# Altium footprint library ad.PcbLib: 129 footprints (part 11 of 12)
Each footprint in its own frame and in the unit in brackets; x right, y up, seen from the top. Pads: shape width x height; smd on the part's side, far side on the other; paste and mask are expansions set on the pad; w line width, h text height; cw(c..) or ccw(c..) is an arc to the next point about the centre after c.
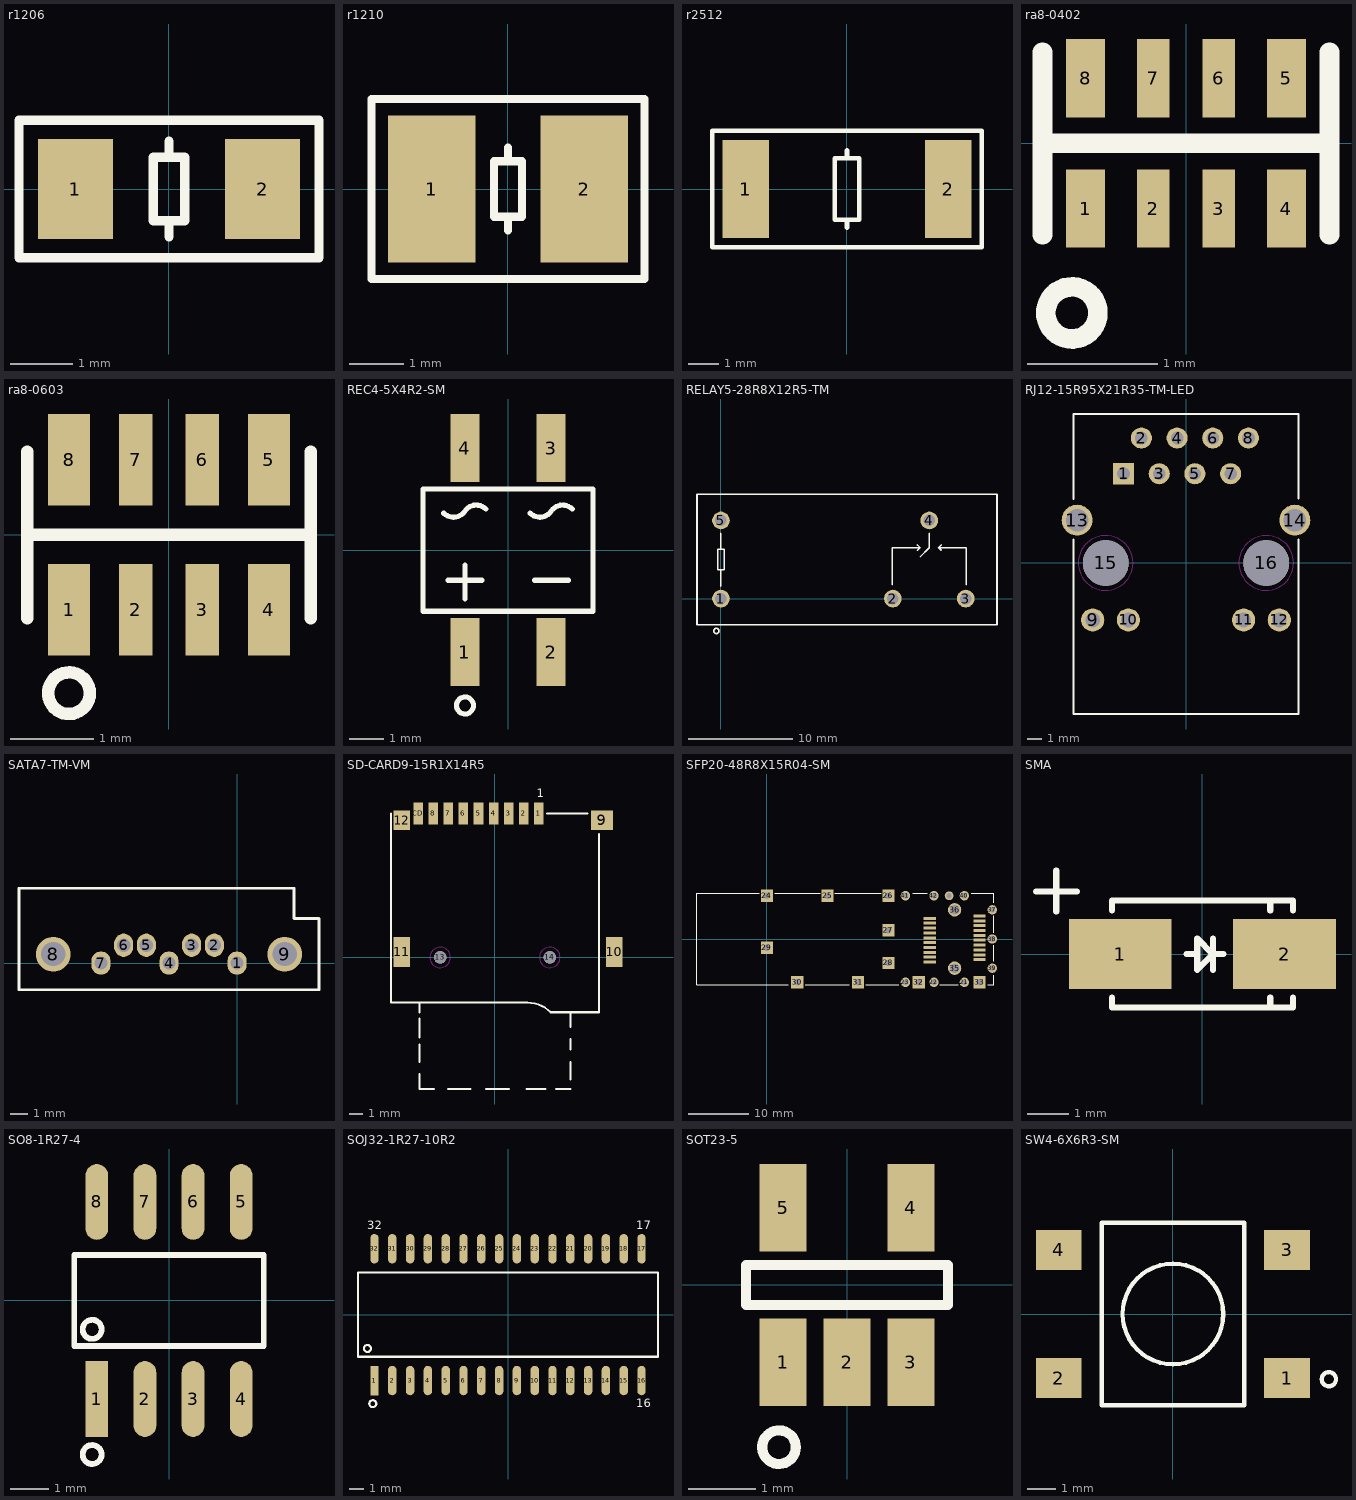
[diagram p10: the footprints below, top view; thin cyan lines are the x and y axes]

## r1206 [mm]
pads (2):
  rect 1.2x1.6 smd: 1(-1.5,0) 2(1.5,0)
Top Overlay:
  lines w0.15: 0,-0.762 0,-0.508 ; 0,0.508 0,0.762 ; -2.4,-1.1 2.4,-1.1 2.4,1.1 -2.4,1.1 -2.4,-1.1 ; -0.254,-0.508 -0.254,0.508 0.254,0.508 0.254,-0.508 -0.254,-0.508

## r1210 [mm]
pads (2):
  rect 1.6x2.7 smd: 1(-1.4,0) 2(1.4,0)
Top Overlay:
  lines w0.15: 0,-0.762 0,-0.508 ; 0,0.508 0,0.762 ; -2.5,-1.65 -2.5,1.65 2.5,1.65 2.5,-1.65 -2.5,-1.65 ; -0.254,-0.508 -0.254,0.508 0.254,0.508 0.254,-0.508 -0.254,-0.508

## r2512 [mm]
pads (2):
  rect 1.52x3.2 smd: 1(-3.3,0) 2(3.3,0)
Top Overlay:
  lines w0.15: 0,-1.27 0,-1 ; 0,1 0,1.27 ; -4.4,-1.9 -4.4,1.9 4.4,1.9 4.4,-1.9 -4.4,-1.9 ; -0.4,-1 0.4,-1 0.4,1 -0.4,1 -0.4,-1

## ra8-0402 [mm]
pads (8):
  rect 0.3x0.6 smd: 1(-0.77,-0.5) 4(0.77,-0.5) 5(0.77,0.5) 8(-0.77,0.5)
  rect 0.25x0.6 smd: 2(-0.25,-0.5) 3(0.25,-0.5) 6(0.25,0.5) 7(-0.25,0.5)
Top Overlay:
  circle w0.15: c-0.875,-1.3 r0.2
  lines w0.15: -1.1,-0.7 -1.1,0.7 ; -1.1,0 1.1,0 ; 1.1,-0.7 1.1,0.7

## ra8-0603 [mm]
pads (8):
  rect 0.5x1.1 smd: 1(-1.2,-0.9) 4(1.2,-0.9) 5(1.2,0.9) 8(-1.2,0.9)
  rect 0.4x1.1 smd: 2(-0.4,-0.9) 3(0.4,-0.9) 6(0.4,0.9) 7(-0.4,0.9)
Top Overlay:
  circle w0.15: c-1.2,-1.9 r0.25
  lines w0.15: -1.7,-1 -1.7,1 ; -1.7,0 1.7,0 ; 1.7,-1 1.7,1

## REC4-5X4R2-SM [mm]
pads (4):
  rect 0.85x2 smd: 1(-1.27,-3) 2(1.27,-3) 3(1.27,3) 4(-1.27,3)
Top Overlay:
  circle w0.15: c-1.266,-4.572 r0.25
  lines w0.15: -1.888,1.082 ccw(c-1.604,1.366) -1.27,1.143 cw(c-0.936,0.92) -0.652,1.204 ; -1.762,-0.889 -0.762,-0.889 ; -1.27,-1.446 -1.27,-0.446 ; 0.652,1.082 ccw(c0.936,1.366) 1.27,1.143 cw(c1.604,0.92) 1.888,1.204 ; 0.778,-0.889 1.778,-0.889 ; -2.5,-1.8 -2.5,1.8 2.5,1.8 2.5,-1.8 -2.5,-1.8

## RELAY5-28R8X12R5-TM [mm]
pads (5):
  round 1.7 hole 1.1: 1(0,0) 2(16.5,0) 3(23.5,0) 4(20,7.5) 5(0,7.5)
Top Overlay:
  circle w0.15: c-0.438,-3.108 r0.25
  lines w0.15: 0,1.21 0,2.734 ; 0,4.766 0,6.29 ; 16.449,1.337 16.449,4.893 19.116,4.893 ; 18.862,4.639 19.116,4.893 ; 18.862,5.147 19.116,4.893 ; 19.116,4.004 20.005,4.893 20.005,5.528 20.005,6.29 ; 21.138,4.639 20.884,4.893 ; 21.138,5.147 20.884,4.893 ; 23.551,1.337 23.551,4.893 20.884,4.893 ; -2.3,-2.5 26.5,-2.5 26.5,10 -2.3,10 -2.3,-2.5 ; -0.32,2.75 -0.32,4.75 0.32,4.75 0.32,2.75 -0.32,2.75

## RJ12-15R95X21R35-TM-LED [mm]
pads (16):
  rect 1.5x1.5 hole 0.9: 1(-4.445,6.35)
  round 1.5 hole 0.9: 2(-3.175,8.89) 3(-1.905,6.35) 4(-0.635,8.89) 5(0.635,6.35) 6(1.905,8.89) 7(3.175,6.35) 8(4.445,8.89)
  round 1.65 hole 1.05: 9(-6.64,-4.06) 10(-4.1,-4.06) 11(4.1,-4.06) 12(6.64,-4.06)
  round 2.2 hole 1.6: 13(-7.75,3.05) 14(7.75,3.05)
  round 3.25 hole 3.25 unplated: 15(-5.715,0) 16(5.715,0)
Top Overlay:
  lines w0.15: -8.001,1.651 -8,1.65 -8,-10.75 8,-10.75 8,1.65 ; -8.001,4.572 -8,4.573 -8,10.6 8,10.6 8,4.573
Bottom Overlay:
  text "1" at -5.842,6.096 h0.6
  text "2" at -4.445,8.636 h0.6
  text "8" at 5.969,8.509 h0.6
  text "7" at 4.826,5.969 h0.6
Keep-Out Layer:
  circle w0: c-5.715,0 r1.95
  circle w0: c5.715,0 r1.95

## SATA7-TM-VM [mm]
pads (9):
  oval 1.07x1.3 hole 0.74: 1(0,0) 2(-1.27,1) 3(-2.54,1) 4(-3.81,0) 5(-5.08,1) 6(-6.35,1) 7(-7.62,0)
  round 1.95 hole 1.35: 8(-10.29,0.5) 9(2.67,0.5)
Top Overlay:
  lines w0.15: -12.21,-1.5 -12.21,2.5 -12.21,4.2 3.19,4.2 3.19,2.515 3.19,2.5 4.59,2.5 4.59,-1.5 -12.21,-1.5
Bottom Overlay:
  text "7" at -8.636,-0.516 h0.6
  text "1" at 1.143,-0.516 h0.6

## SD-CARD9-15R1X14R5 [mm]
pads (15):
  rect 0.7x1.6 smd: 1(3.2,10.5) 2(2.1,10.5) 3(1,10.5) 4(-0.1,10.5) 5(-1.2,10.5) 6(-2.3,10.5) 7(-3.4,10.5) 8(-4.5,10.5) CD(-5.6,10.5)
  rect 1.6x1.4 smd: 9(7.8,10)
  rect 1.2x2.2 smd: 10(8.7,0.4) 11(-6.8,0.4)
  rect 1.2x1.4 smd: 12(-6.8,10)
  round 0.9 hole 0.9 unplated: 13(-4,0) 14(4,0)
Top Overlay:
  lines w0.15: -7.6,10.5 -7.6,-3.3 1.778,-3.3 2.374,-3.3 cw(c2.374,-5.69) 4.064,-4 7.6,-4 7.6,9.017 ; -5.5,-8.509 -5.5,-9.6 ; -5.5,-7.62 -5.5,-6.35 ; -5.5,-5.842 -5.5,-4.445 ; -5.461,-3.3 -5.5,-3.3 ; -4.699,-9.6 -5.5,-9.6 ; -4.445,-9.6 -5.5,-9.6 ; -3.429,-9.6 -1.778,-9.6 ; -0.635,-9.6 1.016,-9.6 ; 2.286,-9.6 3.683,-9.6 ; 3.81,10.5 6.731,10.5 ; 4.445,-9.6 5.5,-9.6 ; 5.5,-8.89 5.5,-7.62 ; 5.5,-6.731 5.5,-5.969 ; 5.5,-5.08 5.5,-4 ; -5.5,-3.3 -5.5,-4 -5.5,-3.3 ; 5.5,-4 5.461,-4 5.5,-4
  text "1" at 3.048,11.684 h0.6
Keep-Out Layer:
  circle w0: c4,0 r0.75
  circle w0: c-4,0 r0.75

## SFP20-48R8X15R04-SM [mm]
pads (42):
  rect 2x0.5 smd: 1(26.8,3.4) 2(26.8,2.6) 3(26.8,1.8) 4(26.8,1) 5(26.8,0.2) 6(26.8,-0.6) 7(26.8,-1.4) 8(26.8,-2.2) 9(26.8,-3) 10(26.8,-3.8) 11(35,3.8) 12(35,3) 13(35,2.2) 14(35,1.4) 15(35,0.6) 16(35,-0.2) 17(35,-1) 18(35,-1.8) 19(35,-2.6) 20(35,-3.4)
  round 1.55 hole 0.95: 21(32.5,-7.125) 22(27.5,-7.125) 23(22.8,-7.125) 37(37.1,4.8) 38(37.1,0) 39(37.1,-4.8) 40(32.5,7.125) 41(22.8,7.125) 42(27.5,7.125)
  rect 2x2 hole 1.05: 24(0,7.125) 25(10,7.125) 26(20,7.125) 27(20,1.45) 28(20,-3.95) 29(0,-1.45) 30(5,-7.125) 31(15,-7.125) 32(25,-7.125) 33(35,-7.125)
  round 1.45 hole 0.85: 34(30,7.125)
  round 2.2 hole 1.6: 35(30.9,-4.8) 36(30.9,4.8)
Top Overlay:
  lines w0.15: -1.27,7.5 -11.5,7.5 -11.5,-7.5 3.556,-7.5 ; 1.27,7.5 8.763,7.5 ; 6.35,-7.5 13.589,-7.5 ; 11.176,7.5 18.796,7.5 ; 16.256,-7.5 21.717,-7.5 ; 24.003,7.5 26.416,7.5 ; 28.448,-7.5 31.496,-7.5 ; 33.655,7.5 37.3,7.5 37.3,5.969 ; 36.322,-7.5 37.3,-7.5 37.3,-5.969 ; 37.3,-3.683 37.3,-1.016 ; 37.3,1.016 37.3,3.81

## SMA [mm]
pads (2):
  rect 2.5x1.7 smd: 1(-2,0) 2(2,0)
Top Overlay:
  lines w0.15: -4.048,1.524 -3.048,1.524 ; -3.556,1.032 -3.556,2.032 ; -2.2,-1.057 -2.2,-1.3 2.2,-1.3 2.2,-1.057 ; -2.2,1.057 -2.2,1.3 2.2,1.3 2.2,1.057 ; -0.381,0 -0.127,0 ; 0.254,-0.381 0.254,0.381 ; 0.508,0 0.254,0 ; 1.651,-1.3 1.651,-1.057 ; 1.651,1.057 1.651,1.3 ; 0.254,0 -0.127,-0.381 -0.127,0.381 0.254,0

## SO8-1R27-4 [mm]
pads (8):
  rect 0.6x2 smd: 1(-1.905,-2.6)
  oval 0.6x2 smd: 2(-0.635,-2.6) 3(0.635,-2.6) 4(1.905,-2.6) 5(1.905,2.6) 6(0.635,2.6) 7(-0.635,2.6) 8(-1.905,2.6)
Top Overlay:
  circle w0.15: c-2.028,-4.064 r0.25
  circle w0.15: c-2.028,-0.762 r0.25
  lines w0.15: -2.5,-1.2 2.5,-1.2 2.5,1.2 -2.5,1.2 -2.5,-1.2

## SOJ32-1R27-10R2 [mm]
pads (32):
  rect 0.6x2.1 smd: 1(-9.525,-4.7)
  oval 0.6x2.1 smd: 2(-8.255,-4.7) 3(-6.985,-4.7) 4(-5.715,-4.7) 5(-4.445,-4.7) 6(-3.175,-4.7) 7(-1.905,-4.7) 8(-0.635,-4.7) 9(0.635,-4.7) 10(1.905,-4.7) 11(3.175,-4.7) 12(4.445,-4.7) 13(5.715,-4.7) 14(6.985,-4.7) 15(8.255,-4.7) 16(9.525,-4.7) 17(9.525,4.7) 18(8.255,4.7) 19(6.985,4.7) 20(5.715,4.7) 21(4.445,4.7) 22(3.175,4.7) 23(1.905,4.7) 24(0.635,4.7) 25(-0.635,4.7) 26(-1.905,4.7) 27(-3.175,4.7) 28(-4.445,4.7) 29(-5.715,4.7) 30(-6.985,4.7) 31(-8.255,4.7) 32(-9.525,4.7)
Top Overlay:
  circle w0.15: c-10.029,-2.413 r0.25
  circle w0.15: c-9.648,-6.35 r0.25
  lines w0.15: -10.7,-3 -10.7,3 10.7,3 10.7,-3 -10.7,-3
  text "32" at -10.033,6.096 h0.6
  text "17" at 9.144,6.096 h0.6
  text "16" at 9.144,-6.604 h0.6

## SOT23-5 [mm]
pads (5):
  rect 0.7x1.3 smd: 1(-0.95,-1.15) 2(0,-1.15) 3(0.95,-1.15) 4(0.95,1.15) 5(-0.95,1.15)
Top Overlay:
  circle w0.15: c-1.012,-2.413 r0.25
  lines w0.15: -1.5,-0.3 -1.5,0.3 1.5,0.3 1.5,-0.3 -1.5,-0.3

## SW4-6X6R3-SM [mm]
pads (4):
  rect 1.6x1.4 smd: 1(4,-2.25) 2(-4,-2.25) 3(4,2.25) 4(-4,2.25)
Top Overlay:
  circle w0.15: c0,0 r1.764
  circle w0.15: c5.465,-2.286 r0.25
  lines w0.15: -2.5,-3.2 -2.5,3.2 2.5,3.2 2.5,-3.2 -2.5,-3.2